# Altium schematic symbol library SCH - INTERFACE - CAN - NXP TJA1043T.Schlib: 1 symbol
Pins are listed as number, name and electrical type; pins without a type are passive.

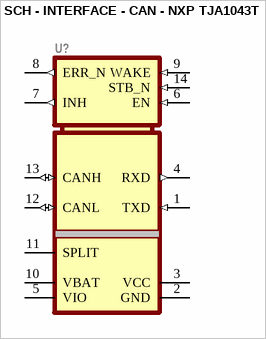
[diagram p0: symbol SCH - INTERFACE - CAN - NXP TJA1043T]

## SCH - INTERFACE - CAN - NXP TJA1043T
designator U?
footprint SOIC127P600X175-14N (SOIC, 14-Leads, Body 8,8x4,0mm (max), Pitch 1,27mm, IPC Medium Density)
pins: 1 TXD (in), 2 GND, 3 VCC, 4 RXD (out), 5 VIO, 6 EN (in), 7 INH (out), 8 ERR_N (out), 9 WAKE (in), 10 VBAT, 11 SPLIT, 12 CANL (io), 13 CANH (io), 14 STB_N (in)